# Altium schematic symbol library Schlib1.SchLib: 1 symbol
Pins are listed as number, name and electrical type; pins without a type are passive.

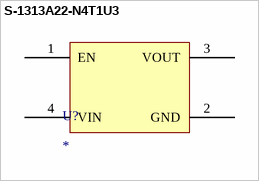
[diagram p0: symbol S-1313A22-N4T1U3]

## S-1313A22-N4T1U3
designator U?
footprint SC82AB (SOT143, 4-Leads, Body 2.00x2.15mm, Pitch 1.30mm, IPC Medium Density)
pins: 1 EN, 2 GND, 3 VOUT, 4 VIN